# Altium footprint library PINPAD.PCBLIB: 151 footprints (part 2 of 10)
Each footprint in its own frame and in the unit in brackets; x right, y up, seen from the top. Pads: shape width x height; smd on the part's side, far side on the other; paste and mask are expansions set on the pad; w line width, h text height; cw(c..) or ccw(c..) is an arc to the next point about the centre after c.
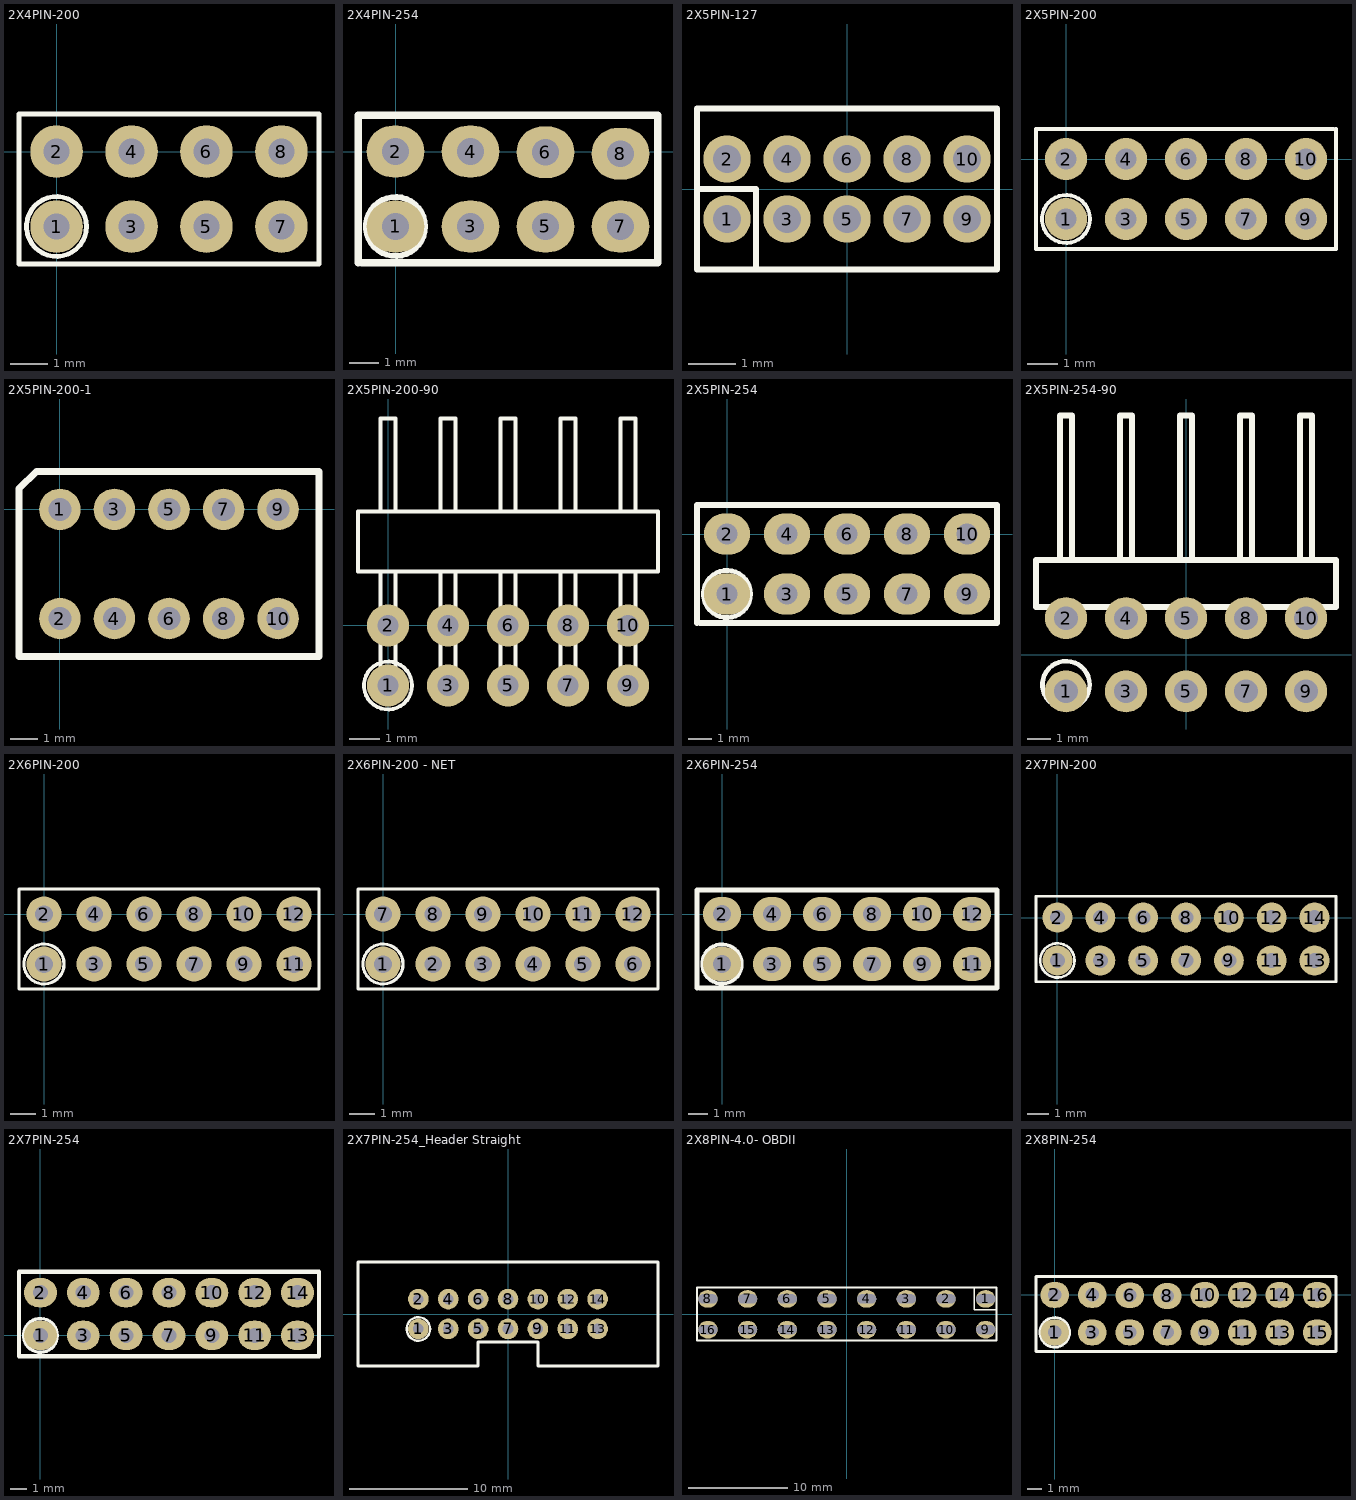
[diagram p1: the footprints below, top view; thin cyan lines are the x and y axes]

## 2X4PIN-200 [mm]
pads (8):
  round 1.4 hole 0.7: 1(0,-2) 2(0,0) 3(2,-2) 4(2,0) 5(4,-2) 6(4,0) 7(6,-2) 8(6,0)
TopOverlay:
  circle w0.127: c0,-2 r0.8
  lines w0.127: -1,-3 -1,1 7,1 7,-3 -1,-3

## 2X4PIN-254 [mm]
pads (8):
  oval 1.95x1.75 hole 0.9: 1(0,-2.54) 2(0,0) 3(2.54,-2.54) 4(2.54,0) 5(5.08,-2.54) 6(5.08,-0.025) 7(7.62,-2.54) 8(7.62,-0.075)
TopOverlay:
  circle w0.2: c0,-2.54 r1
  lines w0.254: -1.27,-3.77 -1.27,1.23 8.86,1.23 ; -1.15,-3.77 8.89,-3.77 8.89,1.23

## 2X5PIN-127 [mm] "2X5PIN-127"
pads (10):
  round 1 hole 0.6: 1(-2.54,-0.635) 2(-2.54,0.635) 3(-1.27,-0.635) 4(-1.27,0.635) 5(0,-0.635) 6(0,0.635) 7(1.27,-0.635) 8(1.27,0.635) 9(2.54,-0.635) 10(2.54,0.635)
TopOverlay:
  lines w0.127: -3.175,0 -1.925,0 -1.925,-1.7 ; -3.175,-1.7 3.175,-1.7 3.175,1.7 -3.175,1.7 -3.175,-1.7

## 2X5PIN-200 [mm]
pads (10):
  round 1.4 hole 0.7: 1(0,-2) 2(0,0) 3(2,-2) 4(2,0) 5(4,-2) 6(4,0) 7(6,-2) 8(6,0) 9(8,-2) 10(8,0)
TopOverlay:
  circle w0.127: c0,-2 r0.8
  lines w0.127: 8.925,1 -1,1 -1,-3 9,-3 9,1

## 2X5PIN-200-1 [mm]
pads (10):
  round 1.524 hole 0.85: 1(0,0) 2(0,-4) 3(2,0) 4(2,-4) 5(4,0) 6(4,-4) 7(6,0) 8(6,-4) 9(8,0) 10(8,-4)
TopOverlay:
  lines w0.254: -1.5,-5.4 9.5,-5.4 9.5,1.397 -0.864,1.397 -1.499,0.762 -1.499,-5.399

## 2X5PIN-200-90 [mm]
pads (10):
  round 1.4 hole 0.7: 1(0,-2) 2(0,0) 3(2,-2) 4(2,0) 5(4,-2) 6(4,0) 7(6,-2) 8(6,0) 9(8,-2) 10(8,0)
TopOverlay:
  circle w0.127: c0,-2 r0.8
  lines w0.127: -0.25,-2 -0.25,1.8 ; -0.25,3.8 -0.25,6.9 0.25,6.9 0.25,3.8 ; 0.25,-2 0.25,1.8 ; 1.75,-2 1.75,1.8 ; 1.75,3.8 1.75,6.9 2.25,6.9 2.25,3.8 ; 2.25,-2 2.25,1.8 ; 3.75,-2 3.75,1.8 ; 3.75,3.8 3.75,6.9 4.25,6.9 4.25,3.8 ; 4.25,-2 4.25,1.8 ; 5.75,-2 5.75,1.8 ; 5.75,3.8 5.75,6.9 6.25,6.9 6.25,3.8 ; 6.25,-2 6.25,1.8 ; 7.75,-2 7.75,1.8 ; 7.75,3.8 7.75,6.9 8.25,6.9 8.25,3.8 ; 8.25,-2 8.25,1.8 ; -1,1.8 9,1.8 9,3.8 -1,3.8 -1,1.8

## 2X5PIN-254 [mm]
pads (10):
  oval 1.95x1.75 hole 0.9: 1(0,-2.54) 2(0,0) 3(2.54,-2.54) 4(2.54,0) 5(5.08,-2.54) 6(5.08,0) 7(7.62,-2.54) 8(7.62,0) 9(10.16,-2.54) 10(10.16,0)
TopOverlay:
  circle w0.2: c0,-2.54 r1
  lines w0.254: -1.27,-3.77 -1.27,1.23 11.43,1.23 11.43,-3.77 -1.15,-3.77

## 2X5PIN-254-90 [mm]
pads (10):
  round 1.778 hole 1: 1(-5.08,-1.55) 2(-5.08,1.55) 3(-2.54,-1.55) 4(-2.54,1.55) 5(0,-1.55) 5(0,1.55) 7(2.54,-1.55) 8(2.54,1.55) 9(5.08,-1.55) 10(5.08,1.55)
TopOverlay:
  circle w0.2: c-5.08,-1.27 r1
  lines w0.254: -5.33,4.02 -5.33,10.12 -4.83,10.12 -4.83,4.02 ; -2.79,4.02 -2.79,10.12 -2.29,10.12 -2.29,4.02 ; -0.25,4.02 -0.25,10.12 0.25,10.12 0.25,4.02 ; 2.29,4.02 2.29,10.12 2.79,10.12 2.79,4.02 ; 4.83,4.02 4.83,10.12 5.33,10.12 5.33,4.02 ; -6.35,2.02 6.35,2.02 6.35,4.02 -6.35,4.02 -6.35,2.02

## 2X6PIN-200 [mm]
pads (12):
  round 1.4 hole 0.7: 1(0,-2) 2(0,0) 3(2,-2) 4(2,0) 5(4,-2) 6(4,0) 7(6,-2) 8(6,0) 9(8,-2) 10(8,0) 11(10,-2) 12(10,0)
TopOverlay:
  circle w0.127: c0,-2 r0.8
  lines w0.127: -1,-3 -1,1 11,1 11,-3 -1,-3

## 2X6PIN-200 - NET [mm] "2X6PIN-200 - NET"
pads (12):
  round 1.4 hole 0.7: 1(0,-2) 2(2,-2) 3(4,-2) 4(6,-2) 5(8,-2) 6(10,-2) 7(0,0) 8(2,0) 9(4,0) 10(6,0) 11(8,0) 12(10,0)
TopOverlay:
  circle w0.127: c0,-2 r0.8
  lines w0.127: -1,-3 -1,1 11,1 11,-3 -1,-3

## 2X6PIN-254 [mm]
pads (12):
  oval 1.95x1.75 hole 0.9: 1(0,-2.54) 2(0,0) 3(2.54,-2.54) 4(2.54,0) 5(5.08,-2.54) 6(5.08,0) 7(7.62,-2.54) 8(7.62,0) 9(10.16,-2.54) 10(10.16,0) 11(12.7,-2.54) 12(12.7,0)
TopOverlay:
  circle w0.2: c0,-2.54 r1
  lines w0.254: -1.27,-3.77 -1.27,1.23 13.97,1.23 13.97,-3.77 -1.15,-3.77

## 2X7PIN-200 [mm]
pads (14):
  round 1.4 hole 0.7: 1(0,-2) 2(0,0) 3(2,-2) 4(2,0) 5(4,-2) 6(4,0) 7(6,-2) 8(6,0) 9(8,-2) 10(8,0) 11(10,-2) 12(10,0) 13(12,-2) 14(12,0)
TopOverlay:
  circle w0.127: c0,-2 r0.8
  lines w0.127: -1,-3 -1,1 13,1 13,-3 -1,-3

## 2X7PIN-254 [mm]
pads (14):
  oval 1.95x1.75 hole 0.9: 1(0,0) 2(0,2.54) 3(2.54,0) 4(2.54,2.54) 5(5.08,0) 6(5.08,2.54) 7(7.62,0) 8(7.62,2.54) 9(10.16,0) 10(10.16,2.54) 11(12.7,0) 12(12.7,2.54) 13(15.24,0) 14(15.24,2.54)
TopOverlay:
  circle w0.2: c0,0 r1
  lines w0.254: -1.27,-1.23 -1.27,3.77 16.51,3.77 16.51,-1.23 -1.15,-1.23

## 2X7PIN-254_Header Straight [mm] "2X7PIN-254_Header Straight"
pads (14):
  round 1.75 hole 0.9: 1(-7.62,-1.27) 2(-7.62,1.27) 3(-5.08,-1.27) 4(-5.08,1.27) 5(-2.54,-1.27) 6(-2.54,1.27) 7(0,-1.27) 8(0,1.27) 9(2.54,-1.27) 10(2.54,1.27) 11(5.08,-1.27) 12(5.08,1.27) 13(7.62,-1.27) 14(7.62,1.27)
TopOverlay:
  circle w0.2: c-7.62,-1.27 r1
  lines w0.254: -2.54,-4.4 -12.75,-4.4 -12.75,4.4 12.75,4.4 12.75,-4.4 2.54,-4.4 ; -2.54,-4.37 -2.54,-2.37 2.54,-2.37 2.54,-4.39

## 2X8PIN-4.0- OBDII [mm] "2X8PIN-4.0- OBDII"
pads (16):
  oval 1.95x1.75 hole 0.9 slot 1.9 at 0 deg: 1(14,1.55) 2(10,1.55) 3(6,1.55) 4(2,1.55) 5(-2,1.55) 6(-6,1.55) 7(-10,1.55) 8(-14,1.55) 9(14,-1.55) 10(10,-1.55) 11(6,-1.55) 12(2,-1.55) 13(-2,-1.55) 14(-6,-1.55) 15(-10,-1.55) 16(-14,-1.55)
TopOverlay:
  lines w0.127: 12.86,2.72 12.86,0.46 15.14,0.46
  lines w0.2: -15.1,-2.66 -15.1,2.72 15.1,2.72 15.1,-2.66 -15.1,-2.66

## 2X8PIN-254 [mm]
pads (16):
  oval 1.95x1.75 hole 0.9: 1(0,-2.54) 2(0,0) 3(2.54,-2.54) 4(2.54,0) 5(5.08,-2.54) 6(5.08,-0.025) 7(7.62,-2.54) 8(7.62,-0.075) 9(10.16,-2.54) 10(10.16,0) 11(12.7,-2.54) 12(12.7,0) 13(15.24,-2.54) 14(15.24,0) 15(17.78,-2.54) 16(17.78,0)
TopOverlay:
  circle w0.2: c0,-2.54 r1
  lines w0.2: 19.05,1.23 -1.27,1.23 -1.27,-3.82 19.05,-3.82 19.05,1.23